# Altium footprint library CIU.PcbLib: 8 footprints
Each footprint in its own frame and in the unit in brackets; x right, y up, seen from the top. Pads: shape width x height; smd on the part's side, far side on the other; paste and mask are expansions set on the pad; w line width, h text height; cw(c..) or ccw(c..) is an arc to the next point about the centre after c.
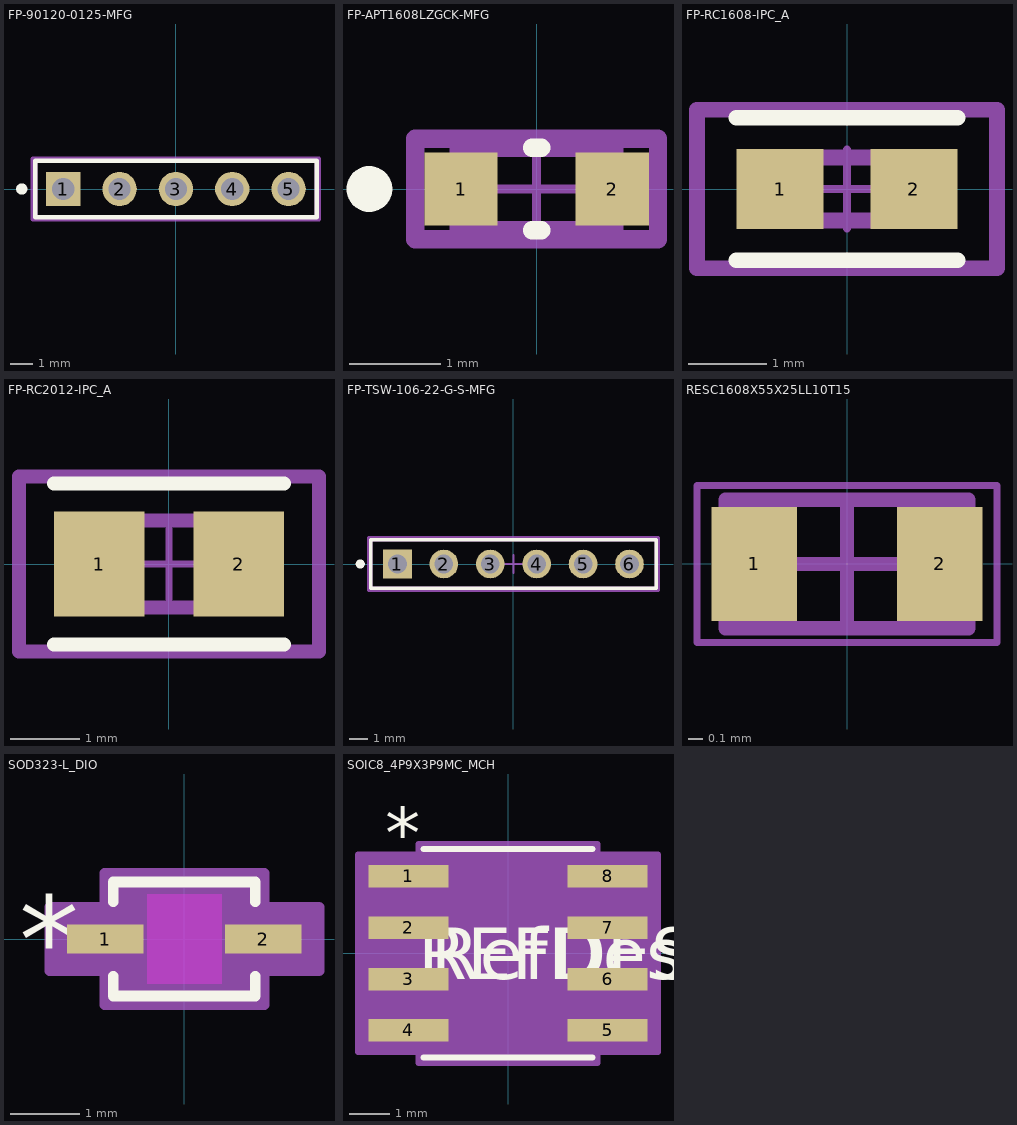
[diagram p0: the footprints below, top view; thin cyan lines are the x and y axes]

## FP-90120-0125-MFG [mm]
pads (5):
  rect 1.55x1.55 hole 1 paste-2539.97 mask+0: 1(-5.08,0)
  round 1.55 hole 1 paste-2539.97 mask+0: 2(-2.54,0) 3(0,0) 4(2.54,0) 5(5.08,0)
Top Overlay:
  circle w0.25: c-6.95,0 r0.125
  lines w0.2: -6.35,-1.27 -6.35,1.27 6.35,1.27 6.35,-1.27 -6.35,-1.27
Top 3D Body:
  lines w0.2: -6.35,-1.27 -6.35,1.27 6.35,1.27 6.35,-1.27 -6.35,-1.27
Top Courtyard:
  lines w0.2: -6.45,-1.37 -6.45,1.37 6.45,1.37 6.45,-1.37 -6.45,-1.37
Top Assembly:
  lines w0.2: -6.45,-1.37 -6.45,1.37 6.45,1.37 6.45,-1.37 -6.45,-1.37
  text ".Designator" at 0,0.188 h1
Top Component Center:
  lines w0.1: -0.5,0 0.5,0 ; 0,-0.5 0,0.5
3D body "Conn_Molex_90120-0125_eec.STEP": height 0.25, standoff 0, extent -6.45,-1.37 6.45,1.37

## FP-APT1608LZGCK-MFG [mm]
pads (2):
  rect 0.8x0.8 smd paste+0 mask+0: 1(-0.825,0) 2(0.825,0)
Top Overlay:
  circle w0.25: c-1.825,0 r0.125
  lines w0.2: -0.05,-0.45 0.05,-0.45 ; -0.05,0.45 0.05,0.45
Top 3D Body:
  lines w0.2: -0.85,-0.45 -0.85,0.45 0.85,0.45 0.85,-0.45 -0.85,-0.45
Top Courtyard:
  lines w0.2: -1.325,-0.55 -1.325,0.55 1.325,0.55 1.325,-0.55 -1.325,-0.55
Top Assembly:
  lines w0.2: -1.325,-0.55 -1.325,0.55 1.325,0.55 1.325,-0.55 -1.325,-0.55
  text ".Designator" at 0,-0.001 h1
Top Component Center:
  lines w0.1: -0.5,0 0.5,0 ; 0,-0.5 0,0.5
3D body "Diode_Kingbright_APT1608LZGCK_eec.STEP": height 0.25, standoff 0, extent -1.325,-0.55 1.325,0.55

## FP-RC1608-IPC_A [mil]
pads (2):
  rect 43.69x39.85 smd paste+0 mask+0: 1(-33.51,0) 2(33.51,0)
Top Overlay:
  lines w7.87: -55.36,-35.67 55.36,-35.67 ; -55.36,35.67 55.36,35.67
Top 3D Body:
  lines w7.87: -31.5,-15.75 -31.5,15.75 31.5,15.75 31.5,-15.75 -31.5,-15.75
Top Courtyard:
  lines w7.87: -75.04,-39.61 -75.04,39.61 75.04,39.61 75.04,-39.61 -75.04,-39.61
Top Assembly:
  lines w7.87: -75.04,-39.61 -75.04,39.61 75.04,39.61 75.04,-39.61 -75.04,-39.61
  text ".Designator" at 0,7.39 h39.37
Top Component Center:
  lines w3.94: -19.68,0 19.68,0 ; 0,-19.68 0,19.68
3D body "Res_Samsung_RC1608F7873CS_eec.STEP": height 10, standoff 0, extent -75.04,-39.61 75.04,39.61

## FP-RC2012-IPC_A [mil]
pads (2):
  rect 51.37x59.38 smd paste+0 mask+0: 1(-39.4,0) 2(39.4,0)
Top Overlay:
  lines w7.87: -65.08,-45.44 65.08,-45.44 ; -65.08,45.44 65.08,45.44
Top 3D Body:
  lines w7.87: -39.37,-24.61 39.37,-24.61 39.37,24.61 -39.37,24.61 -39.37,-24.61
Top Courtyard:
  lines w7.87: -84.77,-49.37 84.77,-49.37 84.77,49.37 -84.77,49.37 -84.77,-49.37
Top Assembly:
  lines w7.87: -84.77,-49.37 84.77,-49.37 84.77,49.37 -84.77,49.37 -84.77,-49.37
  text ".Designator" at 0,7.39 h39.37
Top Component Center:
  lines w3.94: -19.68,0 19.68,0 ; 0,-19.68 0,19.68
3D body "Res_Samsung_RC2012F333CS_eec.STEP": height 10, standoff 0, extent -84.77,-49.37 84.77,49.37

## FP-TSW-106-22-G-S-MFG [mm]
pads (6):
  rect 1.57x1.57 hole 1.02 paste-2539.97 mask+0: 1(-6.35,0)
  round 1.57 hole 1.02 paste-2539.97 mask+0: 2(-3.81,0) 3(-1.27,0) 4(1.27,0) 5(3.81,0) 6(6.35,0)
Top Overlay:
  circle w0.25: c-8.385,0 r0.125
  lines w0.2: -7.81,-1.335 -7.81,1.335 7.81,1.335 7.81,-1.335 -7.81,-1.335
Top 3D Body:
  lines w0.2: -7.81,-1.335 -7.81,1.335 7.81,1.335 7.81,-1.335 -7.81,-1.335
Top Courtyard:
  lines w0.2: -7.91,-1.435 -7.91,1.435 7.91,1.435 7.91,-1.435 -7.91,-1.435
Top Assembly:
  lines w0.2: -7.91,-1.435 -7.91,1.435 7.91,1.435 7.91,-1.435 -7.91,-1.435
  text ".Designator" at 0,0.188 h1
Top Component Center:
  lines w0.1: -0.5,0 0.5,0 ; 0,-0.5 0,0.5
3D body "Conn_Samtec_TSW-106-22-G-S_eec.STEP": height 0.25, standoff 0, extent -7.91,-1.435 7.91,1.435

## RESC1608X55X25LL10T15 [mm] "Chip Resistor, 2-Leads, Body 1.70x0.90mm, IPC High Density"
height 0.55
pads (2):
  rect 0.6x0.8 smd: 1(-0.65,0) 2(0.65,0)
Mechanical 13:
  lines w0.1: -0.85,-0.45 0.85,-0.45 0.85,0.45 -0.85,0.45 -0.85,-0.45
Mechanical 15:
  lines w0.05: -1.05,-0.55 1.05,-0.55 1.05,0.55 -1.05,0.55 -1.05,-0.55
  lines w0.1: -0.45,0 0.45,0 ; 0,-0.45 0,0.45
3D body "RESC1608X06N.step": height 0.55, standoff 0, extent -0.85,-0.45 0.85,0.45

## SOD323-L_DIO [mil]
pads (2):
  rect 43.56x16.36 smd paste+0 mask+0: 1(-45,0) 2(45,0)
Top Overlay:
  lines w6: -40.5,-21.28 -40.5,-32.5 40.5,-32.5 40.5,-21.28 ; -40.5,21.28 -40.5,32.5 40.5,32.5 40.5,21.28
  text ".Designator" at -137.5,-25 h50
  text "*" at -94.28,-25 h50
Keep-Out Layer:
  region: -21.22,-25.5 -21.22,25.5 21.22,25.5 21.22,-25.5
Mechanical 13:
  lines w1: -35.5,-13.75 -21.75,-27.5 ; -35.5,13.75 -21.75,27.5 ; -53,-7 -53,7 -35.5,7 -35.5,-7 -53,-7 ; -35.5,-27.5 35.5,-27.5 35.5,27.5 -35.5,27.5 -35.5,-27.5 ; 35.5,-7 35.5,7 53,7 53,-7 35.5,-7
  text "*" at -38,-25 h50
  text ".Designator" at -137.5,-25 h50
Mechanical 15:
  region: -45.5,-18.18 -76.78,-18.18 -76.78,18.18 -45.5,18.18 -45.5,37.5 45.5,37.5 45.5,18.18 76.78,18.18 76.78,-18.18 45.5,-18.18 45.5,-37.5 -45.5,-37.5
  lines w6: -76.78,-18.18 -76.78,18.18 -45.5,18.18 -45.5,37.5 45.5,37.5 45.5,18.18 76.78,18.18 76.78,-18.18 45.5,-18.18 45.5,-37.5 -45.5,-37.5 -45.5,-18.18 -76.78,-18.18
3D body "SOD323-L_DIO.step": height 47.09, standoff 0, extent -52.99,-27.48 52.99,27.48

## SOIC8_4P9X3P9MC_MCH [mil]
pads (8):
  rect 78x22 smd paste+0 mask+0: 1(-97,75) 2(-97,25) 3(-97,-25) 4(-97,-75) 5(97,-75) 6(97,-25) 7(97,25) 8(97,75)
Top Overlay:
  lines w6: -82,-101.5 82,-101.5 ; -82,101.5 82,101.5
  text "REFDES" at -87.5,-25 h50
  text "*" at -119.5,92 h50
  text "RefDes" at -75,-25 h50
Mechanical 13:
  lines w0: -12,96.5 ccw(c0,96.5) 12,96.5
  lines w1: -122,-85 -122,-65 -77,-65 -77,-85 -122,-85 ; -122,-35 -122,-15 -77,-15 -77,-35 -122,-35 ; -122,15 -122,35 -77,35 -77,15 -122,15 ; -122,65 -122,85 -77,85 -77,65 -122,65 ; -77,-96.5 77,-96.5 77,96.5 -77,96.5 -77,-96.5 ; 77,-85 77,-65 122,-65 122,-85 77,-85 ; 77,-35 77,-15 122,-15 122,-35 77,-35 ; 77,15 77,35 122,35 122,15 77,15 ; 77,65 77,85 122,85 122,65 77,65
  text "*" at -74.5,43.5 h50
  text "RefDes2" at -87.5,-25 h50
Mechanical 15:
  region: -87,-96 -146,-96 -146,96 -87,96 -87,106.5 87,106.5 87,96 146,96 146,-96 87,-96 87,-106.5 -87,-106.5
  lines w6: -146,-96 -146,96 -87,96 -87,106.5 87,106.5 87,96 146,96 146,-96 87,-96 87,-106.5 -87,-106.5 -87,-96 -146,-96
3D body "SOIC8_4P9X3P9MC_MCH.step": height 69.02, standoff 0, extent -122.01,-96.5 122.01,96.5